# Altium schematic symbol library 2021-03-03_13-19-46.SchLib: 1 symbol
Pins are listed as number, name and electrical type; pins without a type are passive.

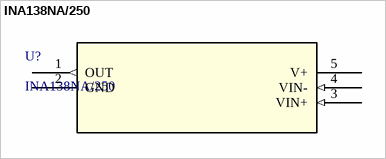
[diagram p0: symbol INA138NA/250]

## INA138NA/250
designator U?
High-Side Measurement Current Shunt Monitor, Current Output; Manufacturer: Texas Instruments; GENERIC_PART_NUMBER: INA138; INDUSTRY_STD_PKG_TYPE: SOT-23; PIN_COUNT: 5; PACKAGE_DESIGNATOR: DBV; Datasheet_URL: http://www.ti.com/lit/gpn/INA138; FAMILY_NAME: CURRENT SHUNT MONITOR; Vendor: Texas Instruments; Manufacturer_Part_Number: INA138NA/250; Copyright: Copyright (C) 2018 Accelerated Designs. All rights reserved; RefDes: RefDes; Type: DEV
footprint DBV5
pins: 1 OUT (out), 2 GND (power), 3 VIN+ (in), 4 VIN- (in), 5 V+ (power)